# Altium schematic symbol library HM-10.SchLib: 1 symbol
Pins are listed as number, name and electrical type; pins without a type are passive.

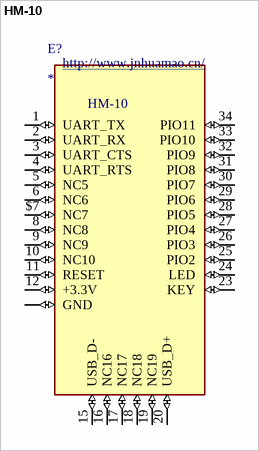
[diagram p0: symbol HM-10]

## HM-10
designator E?
Bluetooth 4.0 module with 4pin base board that can support iphone4s or later.; MF: Jinan Huamao Technology; MP: HM-10; SnapEDA_Link: https://www.snapeda.com/parts/HM-10/Jinan+Huamao+Technology/view-part/?ref=snap; Package: Package; Value: *; Check_prices: https://www.snapeda.com/parts/HM-10/Jinan+Huamao+Technology/view-part/?ref=eda
footprint 26.9X13X2.2_BOARD
pins: 1 UART_TX (io), 2 UART_RX (io), 3 UART_CTS (io), 4 UART_RTS (io), 5 NC5 (io), 6 NC6 (io), 8 NC8 (io), 9 NC9 (io), 10 NC10 (io), 11 RESET (io), 12 +3.3V (io), 13 GND (io), 14 GND (io), 15 USB_D- (io), 16 NC16 (io), 17 NC17 (io), 18 NC18 (io), 19 NC19 (io), 20 USB_D+ (io), 21 GND (io), 22 GND (io), 23 KEY (io), 24 LED (io), 25 PIO2 (io), 26 PIO3 (io), 27 PIO4 (io), 28 PIO5 (io), 29 PIO6 (io), 30 PIO7 (io), 31 PIO8 (io), 32 PIO9 (io), 33 PIO10 (io), 34 PIO11 (io), $7 NC7 (io)
text: http://www.jnhuamao.cn/